# Altium integrated library Atmel QTouch.IntLib: 12 symbols
Pins are listed as number, name and electrical type; pins without a type are passive.

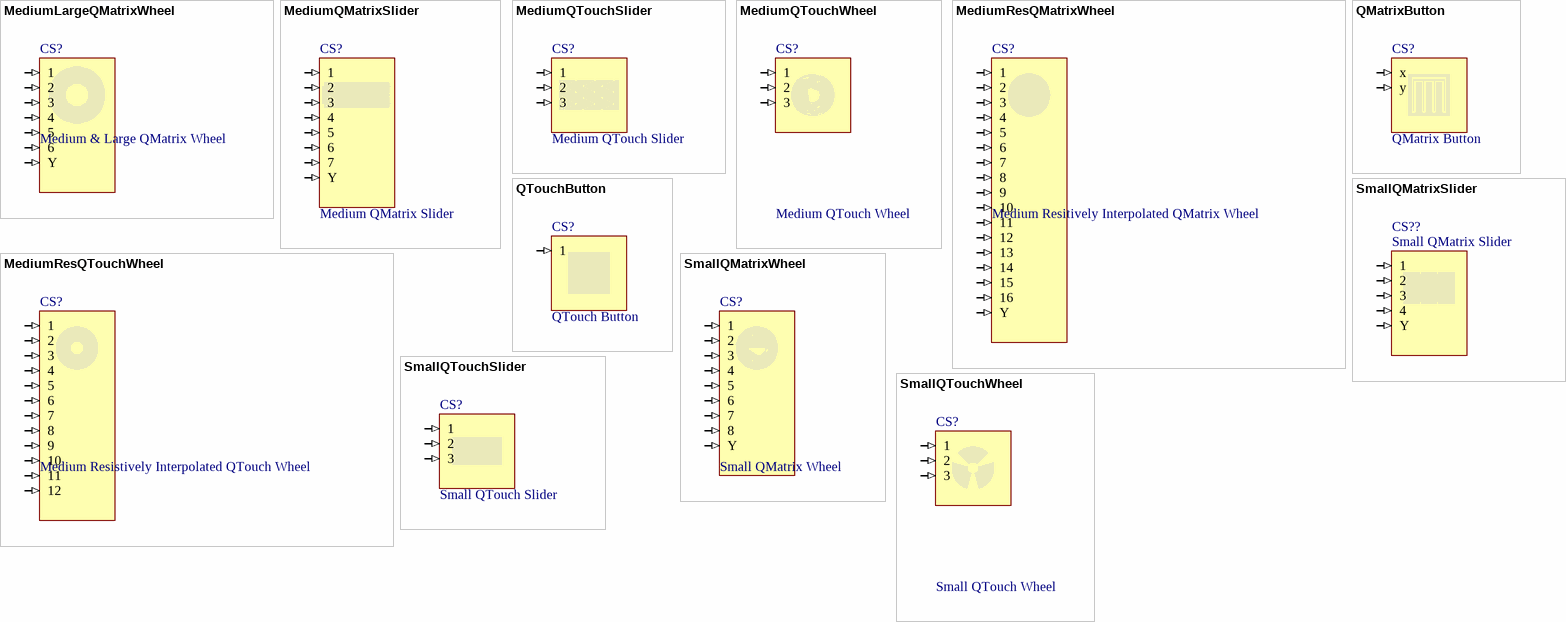
[diagram p0: symbols MediumLargeQMatrixWheel to SmallQTouchWheel]

## MediumLargeQMatrixWheel
designator CS?, comment Medium & Large QMatrix Wheel  (no BOM)
ConfiguratorName: ATMEL_TOUCH; ConfigurationParameters: {}__sensorid[12]{}odiameter[40]{}idiameter[16]{}channels[6]{}segmentsbetweenchannels[0]{}gapthickness[0.3]{}ywidth[0.3]{}
pins: 1 (in), 2 (in), 3 (in), 4 (in), 5 (in), 6 (in), Y (in)

## MediumQMatrixSlider
designator CS?, comment Medium QMatrix Slider  (no BOM)
ConfiguratorName: ATMEL_TOUCH; ConfigurationParameters: {}__sensorid[6]{}width[50]{}height[12]{}gapthickness[0.3]{}numchannels[4]{}segmentsbetweenchannels[1]{}ywidth[0.3]{}
pins: 1 (in), 2 (in), 3 (in), 4 (in), 5 (in), 6 (in), 7 (in), Y (in)

## MediumQTouchSlider
designator CS?, comment Medium QTouch Slider  (no BOM)
ConfiguratorName: ATMEL_TOUCH; ConfigurationParameters: {}__sensorid[4]{}width[50]{}height[12]{}gapthickness[0.3]{}
pins: 1 (in), 2 (in), 3 (in)

## MediumQTouchWheel
designator CS?, comment Medium QTouch Wheel  (no BOM)
ConfiguratorName: ATMEL_TOUCH; ConfigurationParameters: {}__sensorid[8]{}odiameter[30]{}idiameter[10]{}gapthickness[0.3]{}
pins: 1 (in), 2 (in), 3 (in)

## MediumResQMatrixWheel
designator CS?, comment Medium Resitively Interpolated QMatrix Wheel  (no BOM)
ConfiguratorName: ATMEL_TOUCH; ConfigurationParameters: {}__sensorid[11]{}odiameter[30]{}idiameter[7.5]{}numberofkeys[4]{}segmentsbetweenchannels[3]{}gapthickness[0.3]{}ywidth[0.3]{}
pins: 1 (in), 2 (in), 3 (in), 4 (in), 5 (in), 6 (in), 7 (in), 8 (in), 9 (in), 10 (in), 11 (in), 12 (in), 13 (in), 14 (in), 15 (in), 16 (in), Y (in)

## MediumResQTouchWheel
designator CS?, comment Medium Resistively Interpolated QTouch Wheel  (no BOM)
ConfiguratorName: ATMEL_TOUCH; ConfigurationParameters: {}__sensorid[9]{}odiameter[30]{}idiameter[9]{}segmentsbetweenchannels[3]{}gapthickness[0.3]{}
pins: 1 (in), 2 (in), 3 (in), 4 (in), 5 (in), 6 (in), 7 (in), 8 (in), 9 (in), 10 (in), 11 (in), 12 (in)

## QMatrixButton
designator CS?, comment QMatrix Button  (no BOM)
ConfiguratorName: ATMEL_TOUCH; ConfigurationParameters: {}__sensorid[2]{}width[15]{}height[15]{}gapthickness[0.3]{}
pins: x (in), y (in)

## QTouchButton
designator CS?, comment QTouch Button  (no BOM)
ConfiguratorName: ATMEL_TOUCH; ConfigurationParameters: {}__sensorid[1]{}width[15]{}height[15]{}
pins: 1 (in)

## SmallQMatrixSlider
designator CS??, comment Small QMatrix Slider  (no BOM)
ConfiguratorName: ATMEL_TOUCH; ConfigurationParameters: {}__sensorid[5]{}width[32]{}height[12]{}channels[4]{}segmentsbetweenchannels[0]{}t[0.3]{}ywidth[0.5]{}
pins: 1 (in), 2 (in), 3 (in), 4 (in), Y (in)

## SmallQMatrixWheel
designator CS?, comment Small QMatrix Wheel  (no BOM)
ConfiguratorName: ATMEL_TOUCH; ConfigurationParameters: {}__sensorid[10]{}odiameter[20]{}idiameter[7.5]{}numberofkeys[4]{}segmentsbetweenchannels[1]{}gapthickness[0.3]{}fingers[3]{}xwidth[1]{}ywidth[0.3]{}
pins: 1 (in), 2 (in), 3 (in), 4 (in), 5 (in), 6 (in), 7 (in), 8 (in), Y (in)

## SmallQTouchSlider
designator CS?, comment Small QTouch Slider  (no BOM)
ConfiguratorName: ATMEL_TOUCH; ConfigurationParameters: {}__sensorid[3]{}width[25]{}height[12]{}gapthickness[0.3]{}
pins: 1 (in), 2 (in), 3 (in)

## SmallQTouchWheel
designator CS?, comment Small QTouch Wheel  (no BOM)
ConfiguratorName: ATMEL_TOUCH; ConfigurationParameters: {}__sensorid[7]{}diameter[20]{}
pins: 1 (in), 2 (in), 3 (in)